# Altium integrated library T800.IntLib: 1 symbol
Pins are listed as number, name and electrical type; pins without a type are passive.

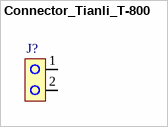
[diagram p0: symbol Connector_Tianli_T-800]

## Connector_Tianli_T-800
designator J?, comment TL-800  (value not drawn)
footprint Conn_Tianli_T-800
pins: 1 17, 2